# Altium footprint library SMD Resistors 0805.PcbLib: 63 footprints (part 4 of 4)
Each footprint in its own frame and in the unit in brackets; x right, y up, seen from the top. Pads: shape width x height; smd on the part's side, far side on the other; paste and mask are expansions set on the pad; w line width, h text height; cw(c..) or ccw(c..) is an arc to the next point about the centre after c.
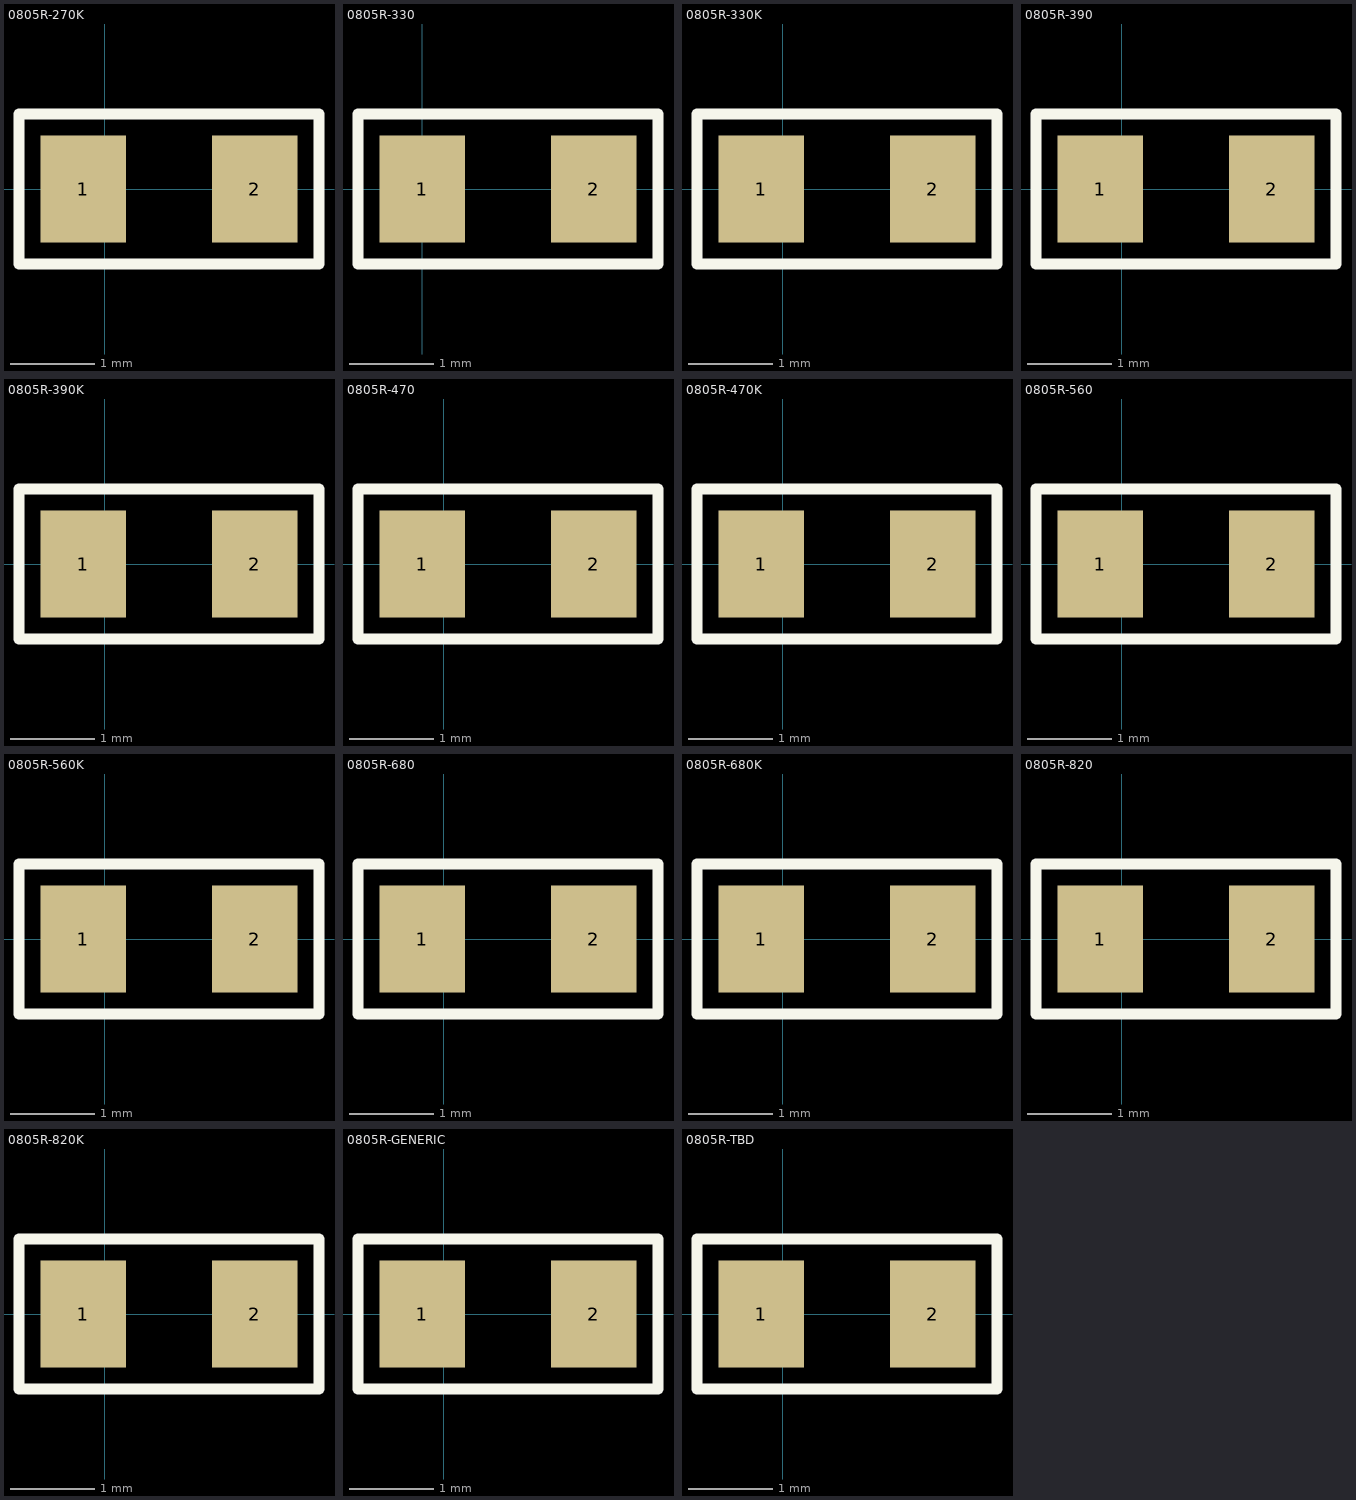
[diagram p3: the footprints below, top view; thin cyan lines are the x and y axes]

## 0805R-270K [mil] "RESISTOR 0805"
pads (2):
  rect 40x50 smd: 1(-10,0) 2(70,0)
Top Overlay:
  lines w5: -40,-35 100,-35 100,35 -40,35 -40,-35
3D body: height 27, standoff 26, extent 35.5,-7.5 43,7.5
3D body: height 27, standoff 26, extent 15.5,-7.5 23,7.5
3D body: height 27, standoff 26, extent 25.5,-7.5 33,7.5
3D body: height 26, standoff 0, extent 54,-25 70,25
3D body: height 26, standoff 25, extent 5,-22 54,22
3D body: height 26, standoff 0, extent -11,-25 5,25
3D body: height 25, standoff 0, extent -10,-24 69,24

## 0805R-330 [mil] "RESISTOR 0805"
pads (2):
  rect 40x50 smd: 1(0,0) 2(80,0)
Top Overlay:
  lines w5: -30,-35 -30,35 110,35 110,-35 -30,-35
3D body: height 25, standoff 0, extent 0,-24 79,24
3D body: height 26, standoff 0, extent -1,-25 15,25
3D body: height 26, standoff 25, extent 15,-22 64,22
3D body: height 26, standoff 0, extent 64,-25 80,25
3D body: height 27, standoff 26, extent 35.5,-7.5 43,7.5
3D body: height 27, standoff 26, extent 25.5,-7.5 33,7.5
3D body: height 27, standoff 26, extent 45.5,-7.5 53,7.5

## 0805R-330K [mil] "RESISTOR 0805"
pads (2):
  rect 40x50 smd: 1(-10,0) 2(70,0)
Top Overlay:
  lines w5: -40,-35 -40,35 100,35 100,-35 -40,-35
3D body: height 27, standoff 26, extent 35.5,-7.5 43,7.5
3D body: height 25, standoff 0, extent -10,-24 69,24
3D body: height 26, standoff 0, extent -11,-25 5,25
3D body: height 26, standoff 25, extent 5,-22 54,22
3D body: height 26, standoff 0, extent 54,-25 70,25
3D body: height 27, standoff 26, extent 25.5,-7.5 33,7.5
3D body: height 27, standoff 26, extent 15.5,-7.5 23,7.5

## 0805R-390 [mil] "RESISTOR 0805"
pads (2):
  rect 40x50 smd: 1(-10,0) 2(70,0)
Top Overlay:
  lines w5: -40,-35 100,-35 100,35 -40,35 -40,-35
3D body: height 26, standoff 0, extent 54,-25 70,25
3D body: height 26, standoff 25, extent 5,-22 54,22
3D body: height 26, standoff 0, extent -11,-25 5,25
3D body: height 25, standoff 0, extent -10,-24 69,24
3D body: height 27, standoff 26, extent 35.5,-7.5 43,7.5
3D body: height 27, standoff 26, extent 25.5,-7.5 33,7.5
3D body: height 27, standoff 26, extent 15.5,-7.5 23,7.5

## 0805R-390K [mil] "RESISTOR 0805"
pads (2):
  rect 40x50 smd: 1(-10,0) 2(70,0)
Top Overlay:
  lines w5: -40,-35 100,-35 100,35 -40,35 -40,-35
3D body: height 26, standoff 0, extent 54,-25 70,25
3D body: height 26, standoff 25, extent 5,-22 54,22
3D body: height 26, standoff 0, extent -11,-25 5,25
3D body: height 25, standoff 0, extent -10,-24 69,24
3D body: height 27, standoff 26, extent 25.5,-7.5 33,7.5
3D body: height 27, standoff 26, extent 15.5,-7.5 23,7.5
3D body: height 27, standoff 26, extent 36,-7.5 43.5,7.5

## 0805R-470 [mil] "RESISTOR 0805"
pads (2):
  rect 40x50 smd: 1(-10,0) 2(70,0)
Top Overlay:
  lines w5: -40,-35 100,-35 100,35 -40,35 -40,-35
3D body: height 26, standoff 0, extent 54,-25 70,25
3D body: height 26, standoff 25, extent 5,-22 54,22
3D body: height 26, standoff 0, extent -11,-25 5,25
3D body: height 25, standoff 0, extent -10,-24 69,24
3D body: height 27, standoff 26, extent 25.5,-7.5 33,7.5
3D body: height 27, standoff 26, extent 15.5,-7.5 23,7.5
3D body: height 27, standoff 26, extent 35.5,-7.5 43,7.5

## 0805R-470K [mil] "RESISTOR 0805"
pads (2):
  rect 40x50 smd: 1(-10,0) 2(70,0)
Top Overlay:
  lines w5: -40,-35 100,-35 100,35 -40,35 -40,-35
3D body: height 26, standoff 0, extent 54,-25 70,25
3D body: height 26, standoff 25, extent 5,-22 54,22
3D body: height 26, standoff 0, extent -11,-25 5,25
3D body: height 25, standoff 0, extent -10,-24 69,24
3D body: height 27, standoff 26, extent 25.5,-7.5 33,7.5
3D body: height 27, standoff 26, extent 15.5,-7.5 23,7.5
3D body: height 27, standoff 26, extent 35.5,-7.5 43,7.5

## 0805R-560 [mil] "RESISTOR 0805"
pads (2):
  rect 40x50 smd: 1(-10,0) 2(70,0)
Top Overlay:
  lines w5: -40,-35 -40,35 100,35 100,-35 -40,-35
3D body: height 27, standoff 26, extent 35.5,-7.5 43,7.5
3D body: height 27, standoff 26, extent 25.5,-7.5 33,7.5
3D body: height 27, standoff 26, extent 15.5,-7.5 23,7.5
3D body: height 25, standoff 0, extent -10,-24 69,24
3D body: height 26, standoff 0, extent -11,-25 5,25
3D body: height 26, standoff 25, extent 5,-22 54,22
3D body: height 26, standoff 0, extent 54,-25 70,25

## 0805R-560K [mil] "RESISTOR 0805"
pads (2):
  rect 40x50 smd: 1(-10,0) 2(70,0)
Top Overlay:
  lines w5: -40,-35 100,-35 100,35 -40,35 -40,-35
3D body: height 26, standoff 0, extent 54,-25 70,25
3D body: height 26, standoff 25, extent 5,-22 54,22
3D body: height 26, standoff 0, extent -11,-25 5,25
3D body: height 25, standoff 0, extent -10,-24 69,24
3D body: height 27, standoff 26, extent 15.5,-7.5 23,7.5
3D body: height 27, standoff 26, extent 25.5,-7.5 33,7.5
3D body: height 27, standoff 26, extent 35.5,-7.5 43,7.5

## 0805R-680 [mil] "RESISTOR 0805"
pads (2):
  rect 40x50 smd: 1(-10,0) 2(70,0)
Top Overlay:
  lines w5: -40,-35 -40,35 100,35 100,-35 -40,-35
3D body: height 27, standoff 26, extent 25.5,-7.5 33,7.5
3D body: height 27, standoff 26, extent 35.5,-7.5 43,7.5
3D body: height 27, standoff 26, extent 15.5,-7.5 23,7.5
3D body: height 25, standoff 0, extent -10,-24 69,24
3D body: height 26, standoff 0, extent -11,-25 5,25
3D body: height 26, standoff 25, extent 5,-22 54,22
3D body: height 26, standoff 0, extent 54,-25 70,25

## 0805R-680K [mil] "RESISTOR 0805"
pads (2):
  rect 40x50 smd: 1(-10,0) 2(70,0)
Top Overlay:
  lines w5: -40,-35 -40,35 100,35 100,-35 -40,-35
3D body: height 27, standoff 26, extent 25.5,-7.5 33,7.5
3D body: height 27, standoff 26, extent 15.5,-7.5 23,7.5
3D body: height 25, standoff 0, extent -10,-24 69,24
3D body: height 26, standoff 0, extent -11,-25 5,25
3D body: height 26, standoff 25, extent 5,-22 54,22
3D body: height 26, standoff 0, extent 54,-25 70,25
3D body: height 27, standoff 26, extent 35.5,-7.5 43,7.5

## 0805R-820 [mil] "RESISTOR 0805"
pads (2):
  rect 40x50 smd: 1(-10,0) 2(70,0)
Top Overlay:
  lines w5: -40,-35 -40,35 100,35 100,-35 -40,-35
3D body: height 27, standoff 26, extent 35.5,-7.5 43,7.5
3D body: height 27, standoff 26, extent 25.5,-7.5 33,7.5
3D body: height 27, standoff 26, extent 15.5,-7.5 23,7.5
3D body: height 25, standoff 0, extent -10,-24 69,24
3D body: height 26, standoff 0, extent -11,-25 5,25
3D body: height 26, standoff 25, extent 5,-22 54,22
3D body: height 26, standoff 0, extent 54,-25 70,25

## 0805R-820K [mil] "RESISTOR 0805"
pads (2):
  rect 40x50 smd: 1(-10,0) 2(70,0)
Top Overlay:
  lines w5: -40,-35 100,-35 100,35 -40,35 -40,-35
3D body: height 27, standoff 26, extent 35.5,-7.5 43,7.5
3D body: height 26, standoff 0, extent 54,-25 70,25
3D body: height 26, standoff 25, extent 5,-22 54,22
3D body: height 26, standoff 0, extent -11,-25 5,25
3D body: height 25, standoff 0, extent -10,-24 69,24
3D body: height 27, standoff 26, extent 15.5,-7.5 23,7.5
3D body: height 27, standoff 26, extent 25.5,-7.5 33,7.5

## 0805R-GENERIC [mil] "RESISTOR 0805"
pads (2):
  rect 40x50 smd: 1(-10,0) 2(70,0)
Top Overlay:
  lines w5: -40,-35 -40,35 100,35 100,-35 -40,-35
3D body: height 27, standoff 26, extent 49.5,2 57,17
3D body: height 27, standoff 26, extent 39.5,2 47,17
3D body: height 25, standoff 0, extent -10,-24 69,24
3D body: height 26, standoff 0, extent -11,-25 5,25
3D body: height 26, standoff 25, extent 5,-22 54,22
3D body: height 26, standoff 0, extent 54,-25 70,25
3D body: height 27, standoff 26, extent 15,-15.5 22.5,-0.5
3D body: height 27, standoff 26, extent -0.5,2 7,17
3D body: height 27, standoff 26, extent 9.5,2 17,17
3D body: height 27, standoff 26, extent 19.5,2 27,17
3D body: height 27, standoff 26, extent 29.5,2 37,17
3D body: height 27, standoff 26, extent 25,-15.5 32.5,-0.5
3D body: height 27, standoff 26, extent 5,-15.5 12.5,-0.5
3D body: height 27, standoff 26, extent 35,-15.5 42.5,-0.5
3D body: height 27, standoff 26, extent 45,-15.5 52.5,-0.5

## 0805R-TBD [mil] "RESISTOR 0805 VALUE TO BE DETERMINED"
pads (2):
  rect 40x50 smd: 1(-10,0) 2(70,0)
Top Overlay:
  lines w5: -40,-35 -40,35 100,35 100,-35 -40,-35
3D body: height 27, standoff 26, extent 33.5,-5 41,8.5
3D body: height 27, standoff 26, extent 36,-9 38,-7
3D body: height 27, standoff 26, extent 23.5,-5 31,8.5
3D body: height 27, standoff 26, extent 26,-9 28,-7
3D body: height 27, standoff 26, extent 16,-9 18,-7
3D body: height 25, standoff 0, extent -10,-24 69,24
3D body: height 26, standoff 0, extent -11,-25 5,25
3D body: height 26, standoff 25, extent 5,-22 54,22
3D body: height 26, standoff 0, extent 54,-25 70,25
3D body: height 27, standoff 26, extent 13.5,-5 21,8.5